# Altium footprint library MONOLITHICPOWER_PKG_QFN-26.PcbLib: 1 footprints
Each footprint in its own frame and in the unit in brackets; x right, y up, seen from the top. Pads: shape width x height; smd on the part's side, far side on the other; paste and mask are expansions set on the pad; w line width, h text height; cw(c..) or ccw(c..) is an arc to the next point about the centre after c.
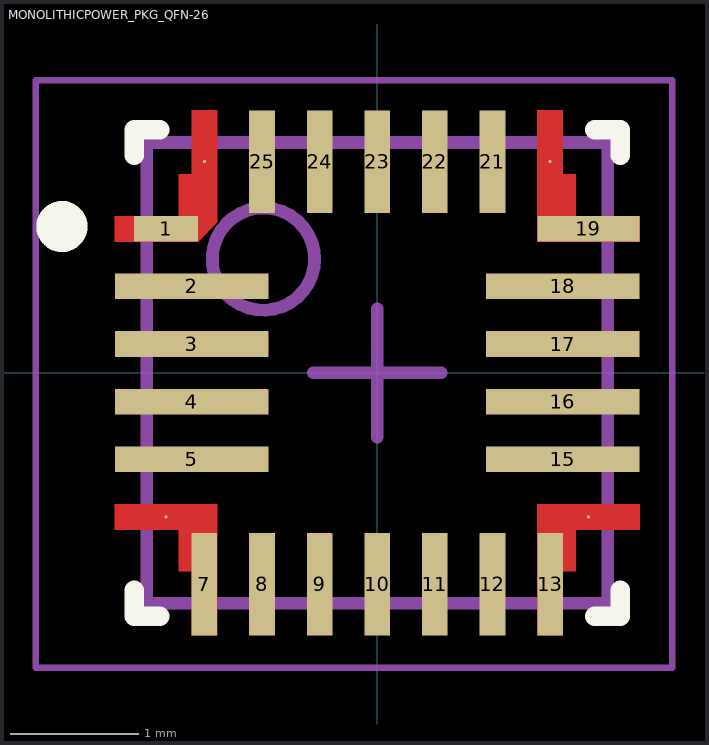
[diagram p0: the footprint, top view; thin cyan lines are the x and y axes]

## MONOLITHICPOWER_PKG_QFN-26 [mm]
height 1
pads (26):
  rect 0.5x0.2 smd paste-2539.97 mask+0.102: 1(-1.65,1.125)
  rect 1.2x0.2 smd paste+0: 2(-1.45,0.675) 3(-1.45,0.225) 4(-1.45,-0.225) 5(-1.45,-0.675) 15(1.45,-0.675) 16(1.45,-0.225) 17(1.45,0.225) 18(1.45,0.675)
  round 0.025 smd: 6(-1.65,-1.125) 14(1.65,-1.125) 20(1.35,1.65) 26(-1.35,1.65)
  rect 0.2x0.8 smd paste-2539.97 mask-0.064: 7(-1.35,-1.65) 13(1.35,-1.65)
  rect 0.2x0.8 smd paste+0: 8(-0.9,-1.65) 9(-0.45,-1.65) 10(0,-1.65) 11(0.45,-1.65) 12(0.9,-1.65) 21(0.9,1.65) 22(0.45,1.65) 23(0,1.65) 24(-0.45,1.65) 25(-0.9,1.65)
  rect 0.8x0.2 smd paste-2539.97 mask-0.064: 19(1.65,1.125)
Top Layer:
  region: -1.45,1.55 -1.45,2.05 -1.25,2.05 -1.25,1.175 -1.4,1.025 -2.05,1.025 -2.05,1.225 -1.55,1.225 -1.55,1.55
  region: 1.25,1.025 2.05,1.025 2.05,1.225 1.55,1.225 1.55,1.55 1.45,1.55 1.45,2.05 1.25,2.05
  region: 1.25,-1.025 2.05,-1.025 2.05,-1.225 1.55,-1.225 1.55,-1.55 1.45,-1.55 1.45,-2.05 1.25,-2.05
  region: -1.25,-1.025 -2.05,-1.025 -2.05,-1.225 -1.55,-1.225 -1.55,-1.55 -1.45,-1.55 -1.45,-2.05 -1.25,-2.05
Top Overlay:
  circle w0.2: c-2.463,1.143 r0.1
  lines w0.152: -1.9,-1.7 -1.9,-1.9 -1.7,-1.9 ; -1.9,1.7 -1.9,1.9 -1.7,1.9 ; 1.7,-1.9 1.9,-1.9 1.9,-1.7 ; 1.7,1.9 1.9,1.9 1.9,1.7
Mechanical 13:
  circle w0.1: c-0.889,0.889 r0.4
  lines w0.1: -1.8,-1.8 1.8,-1.8 1.8,1.8 -1.8,1.8 -1.8,-1.8
Mechanical 15:
  lines w0.05: -2.667,-2.304 2.304,-2.304 2.304,2.286 -2.667,2.286 -2.667,-2.304
  lines w0.1: -0.5,0 0.5,0 ; 0,-0.5 0,0.5
3D body: height 1, standoff 0, extent -1.8,-1.8 1.8,1.8